# Altium schematic symbol library TPS65130.SchLib: 1 symbol
Pins are listed as number, name and electrical type; pins without a type are passive.

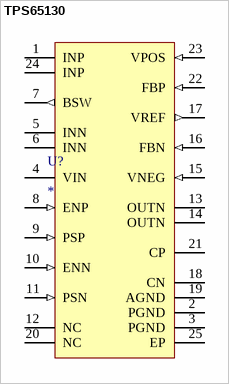
[diagram p0: symbol TPS65130]

## TPS65130
designator U?
pins: 1 INP (power), 2 PGND (power), 3 PGND (power), 4 VIN (power), 5 INN (power), 6 INN (power), 7 BSW (out), 8 ENP (in), 9 PSP (in), 10 ENN (in), 11 PSN (in), 12 NC, 13 OUTN (power), 14 OUTN (power), 15 VNEG (in), 16 FBN (in), 17 VREF (out), 18 CN, 19 AGND (power), 20 NC, 21 CP, 22 FBP (in), 23 VPOS (in), 24 INP (power), 25 EP (power)